# EAGLE library part M032FC1AE (library M032FC1AE)
IC MCU 32BIT CORTEX-M0 32KB FLAS Source: Datasheet <https://datasheet.lcsc.com/lcsc/2009261437_Nuvoton-Tech-M031LD2AE_C841531.pdf>
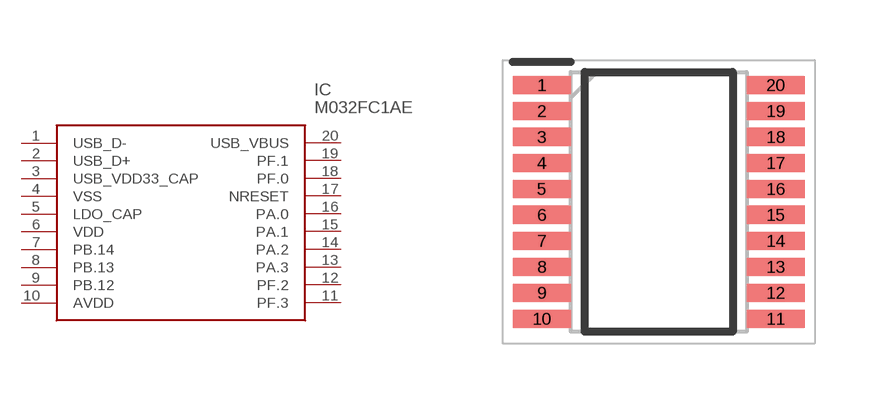
[diagram p0: symbol with the pads of SOP65P640X120-20N; footprint SOP65P640X120-20N]

Designator prefix IC

## M032FC1AE (Description: IC MCU 32BIT CORTEX-M0 32KB FLAS; Height: 1.2mm; Manufacturer_Name: Nuvoton; Manufacturer_Part_Number: M032FC1AE)  [SOP65P640X120-20N]
1  USB_D-
2  USB_D+
3  USB_VDD33_CAP
4  VSS
5  LDO_CAP
6  VDD
7  PB.14
8  PB.13
9  PB.12
10  AVDD
11  PF.3
12  PF.2
13  PA.3
14  PA.2
15  PA.1
16  PA.0
17  NRESET
18  PF.0
19  PF.1
20  USB_VBUS

## Footprint SOP65P640X120-20N (pad centres in mm)
TSSOP20
smd 1.45 x 0.45: 1 -2.925,2.925; 2 -2.925,2.275; 3 -2.925,1.625; 4 -2.925,0.975; 5 -2.925,0.325; 6 -2.925,-0.325; 7 -2.925,-0.975; 8 -2.925,-1.625; 9 -2.925,-2.275; 10 -2.925,-2.925; 11 2.925,-2.925; 12 2.925,-2.275; 13 2.925,-1.625; 14 2.925,-0.975; 15 2.925,-0.325; 16 2.925,0.325; 17 2.925,0.975; 18 2.925,1.625; 19 2.925,2.275; 20 2.925,2.925